# Altium schematic symbol library DIODE BRIDGE.SchLib: 1 symbol
Pins are listed as number, name and electrical type; pins without a type are passive.

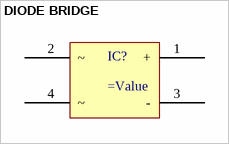
[diagram p0: symbol DIODE BRIDGE]

## DIODE BRIDGE
designator IC?
=Description
pins: 1 +, 2 ~, 3 -, 4 ~